# EAGLE library part STM32F030RCT6TR (library STM32F030RCT6TR)
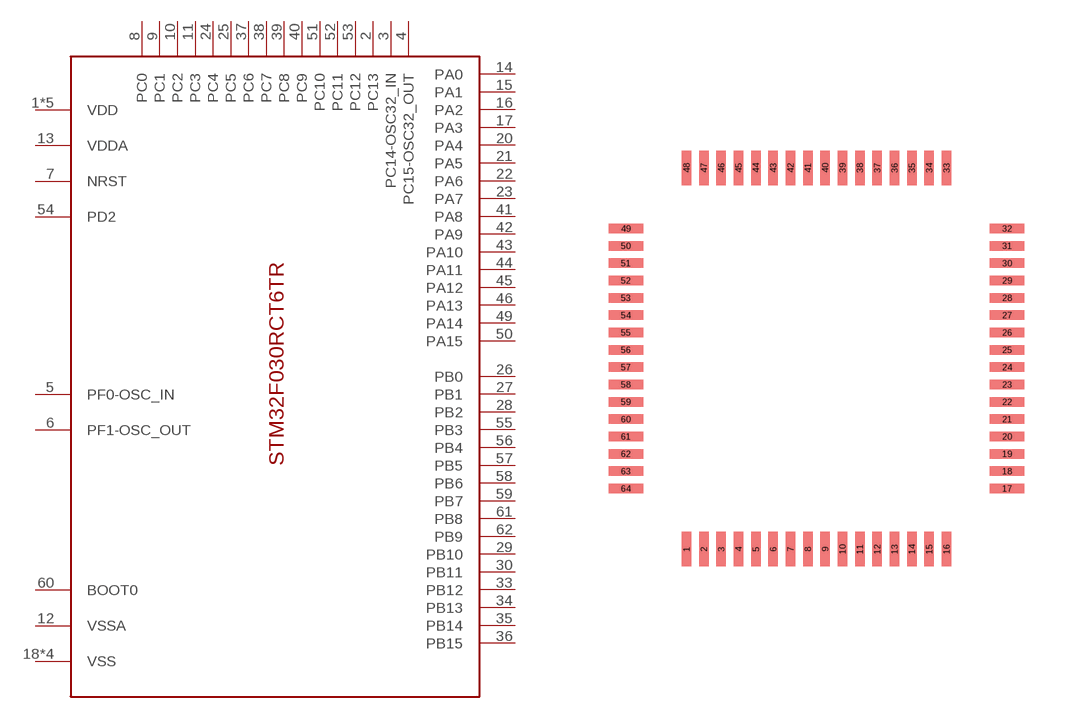
[diagram p0: symbol with the pads of LQFP64; footprint LQFP64]

Designator prefix -

## STM32F030RCT6TRLQFP64  [LQFP64]
1  VDD
2  PC13
3  PC14-OSC32_IN
4  PC15-OSC32_OUT
5  PF0-OSC_IN
6  PF1-OSC_OUT
7  NRST
8  PC0
9  PC1
10  PC2
11  PC3
12  VSSA
13  VDDA
14  PA0
15  PA1
16  PA2
17  PA3
18  VSS
19  VDD
20  PA4
21  PA5
22  PA6
23  PA7
24  PC4
25  PC5
26  PB0
27  PB1
28  PB2
29  PB10
30  PB11
31  VSS
32  VDD
33  PB12
34  PB13
35  PB14
36  PB15
37  PC6
38  PC7
39  PC8
40  PC9
41  PA8
42  PA9
43  PA10
44  PA11
45  PA12
46  PA13
47  VSS
48  VDD
49  PA14
50  PA15
51  PC10
52  PC11
53  PC12
54  PD2
55  PB3
56  PB4
57  PB5
58  PB6
59  PB7
60  BOOT0
61  PB8
62  PB9
63  VSS
64  VDD

## Footprint LQFP64 (pad centres in mm)
LQFP64
smd 0.27 x 1: 1 -3.06,-5.59; 2 -2.56,-5.59; 3 -2.06,-5.59; 4 -1.56,-5.59; 5 -1.06,-5.59; 6 -0.56,-5.59; 7 -0.06,-5.59; 8 0.44,-5.59; 9 0.94,-5.59; 10 1.44,-5.59; 11 1.94,-5.59; 12 2.44,-5.59; 13 2.94,-5.59; 14 3.44,-5.59; 15 3.94,-5.59; 16 4.44,-5.59; 33 4.44,5.41; 34 3.94,5.41; 35 3.44,5.41; 36 2.94,5.41; 37 2.44,5.41; 38 1.94,5.41; 39 1.44,5.41; 40 0.94,5.41; 41 0.44,5.41; 42 -0.06,5.41; 43 -0.56,5.41; 44 -1.06,5.41; 45 -1.56,5.41; 46 -2.06,5.41; 47 -2.56,5.41; 48 -3.06,5.41
smd 1 x 0.27: 17 6.19,-3.84; 18 6.19,-3.34; 19 6.19,-2.84; 20 6.19,-2.34; 21 6.19,-1.84; 22 6.19,-1.34; 23 6.19,-0.84; 24 6.19,-0.34; 25 6.19,0.16; 26 6.19,0.66; 27 6.19,1.16; 28 6.19,1.66; 29 6.19,2.16; 30 6.19,2.66; 31 6.19,3.16; 32 6.19,3.66; 49 -4.81,3.66; 50 -4.81,3.16; 51 -4.81,2.66; 52 -4.81,2.16; 53 -4.81,1.66; 54 -4.81,1.16; 55 -4.81,0.66; 56 -4.81,0.16; 57 -4.81,-0.34; 58 -4.81,-0.84; 59 -4.81,-1.34; 60 -4.81,-1.84; 61 -4.81,-2.34; 62 -4.81,-2.84; 63 -4.81,-3.34; 64 -4.81,-3.84